# Altium integrated library WE-SL1 SMD Common Mode Line Filter.IntLib: 7 symbols
Pins are listed as number, name and electrical type; pins without a type are passive.

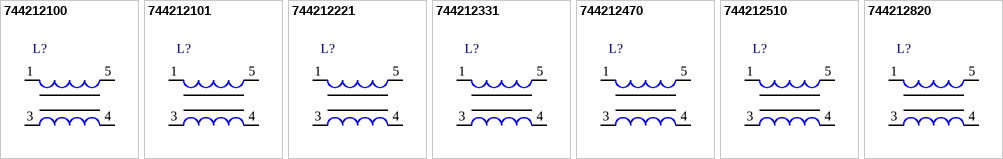
[diagram p0: symbols 744212100 to 744212820]

## 744212100
designator L?
SMD Common Mode Line Filter WE-SL1, L = 10.0 µH; PartNumber: 744212100; Inductance: 10.0 µH; DatasheetVersion: ver 7, Nov-2010; PackageReference: WE-SL1; PackageDescription: SMD Inductor, 4-Leads, Body 3.8 x 6.5 mm; ComponentLink1Description: Manufacturer URL; ComponentLink1URL: http://www.we-online.com; ComponentLink2Description: Datasheet; ComponentLink2URL: http://www.we-online.de/katalog/media/pdf/744212100.pdf
footprint WE-SL1 (SMD Inductor, 4-Leads, Body 3.8x6.5x1.8 mm)
pins: 1, 3, 4, 5

## 744212101
designator L?
SMD Common Mode Line Filter WE-SL1, L = 100 µH; PartNumber: 744212101; Inductance: 100 µH; DatasheetVersion: ver 7, Nov-2010; PackageReference: WE-SL1; PackageDescription: SMD Inductor, 4-Leads, Body 3.8 x 6.5 mm; ComponentLink1Description: Manufacturer URL; ComponentLink1URL: http://www.we-online.com; ComponentLink2Description: Datasheet; ComponentLink2URL: http://www.we-online.de/katalog/media/pdf/744212101.pdf
footprint WE-SL1 (SMD Inductor, 4-Leads, Body 3.8x6.5x1.8 mm)
pins: 1, 3, 4, 5

## 744212221
designator L?
SMD Common Mode Line Filter WE-SL1, L = 220 µH; PartNumber: 744212221; Inductance: 220 µH; DatasheetVersion: ver 7, Nov-2010; PackageReference: WE-SL1; PackageDescription: SMD Inductor, 4-Leads, Body 3.8 x 6.5 mm; ComponentLink1Description: Manufacturer URL; ComponentLink1URL: http://www.we-online.com; ComponentLink2Description: Datasheet; ComponentLink2URL: http://www.we-online.de/katalog/media/pdf/744212221.pdf
footprint WE-SL1 (SMD Inductor, 4-Leads, Body 3.8x6.5x1.8 mm)
pins: 1, 3, 4, 5

## 744212331
designator L?
SMD Common Mode Line Filter WE-SL1, L = 330 µH; PartNumber: 744212331; Inductance: 330 µH; DatasheetVersion: ver 7, Nov-2010; PackageReference: WE-SL1; PackageDescription: SMD Inductor, 4-Leads, Body 3.8 x 6.5 mm; ComponentLink1Description: Manufacturer URL; ComponentLink1URL: http://www.we-online.com; ComponentLink2Description: Datasheet; ComponentLink2URL: http://www.we-online.de/katalog/media/pdf/744212331.pdf
footprint WE-SL1 (SMD Inductor, 4-Leads, Body 3.8x6.5x1.8 mm)
pins: 1, 3, 4, 5

## 744212470
designator L?
SMD Common Mode Line Filter WE-SL1, L = 47.0 µH; PartNumber: 744212470; Inductance: 47.0 µH; DatasheetVersion: ver 7, Nov-2010; PackageReference: WE-SL1; PackageDescription: SMD Inductor, 4-Leads, Body 3.8 x 6.5 mm; ComponentLink1Description: Manufacturer URL; ComponentLink1URL: http://www.we-online.com; ComponentLink2Description: Datasheet; ComponentLink2URL: http://www.we-online.de/katalog/media/pdf/744212470.pdf
footprint WE-SL1 (SMD Inductor, 4-Leads, Body 3.8x6.5x1.8 mm)
pins: 1, 3, 4, 5

## 744212510
designator L?
SMD Common Mode Line Filter WE-SL1, L = 51.0 µH; PartNumber: 744212510; Inductance: 51.0 µH; DatasheetVersion: ver 7, Nov-2010; PackageReference: WE-SL1; PackageDescription: SMD Inductor, 4-Leads, Body 3.8 x 6.5 mm; ComponentLink1Description: Manufacturer URL; ComponentLink1URL: http://www.we-online.com; ComponentLink2Description: Datasheet; ComponentLink2URL: http://www.we-online.de/katalog/media/pdf/744212510.pdf
footprint WE-SL1 (SMD Inductor, 4-Leads, Body 3.8x6.5x1.8 mm)
pins: 1, 3, 4, 5

## 744212820
designator L?
SMD Common Mode Line Filter WE-SL1, L = 82.0 µH; PartNumber: 744212820; Inductance: 82.0 µH; DatasheetVersion: ver 7, Nov-2010; PackageReference: WE-SL1; PackageDescription: SMD Inductor, 4-Leads, Body 3.8 x 6.5 mm; ComponentLink1Description: Manufacturer URL; ComponentLink1URL: http://www.we-online.com; ComponentLink2Description: Datasheet; ComponentLink2URL: http://www.we-online.de/katalog/media/pdf/744212820.pdf
footprint WE-SL1 (SMD Inductor, 4-Leads, Body 3.8x6.5x1.8 mm)
pins: 1, 3, 4, 5